# Altium schematic symbol library NEW-MODUL.SchLib: 247 symbols (part 2 of 2)
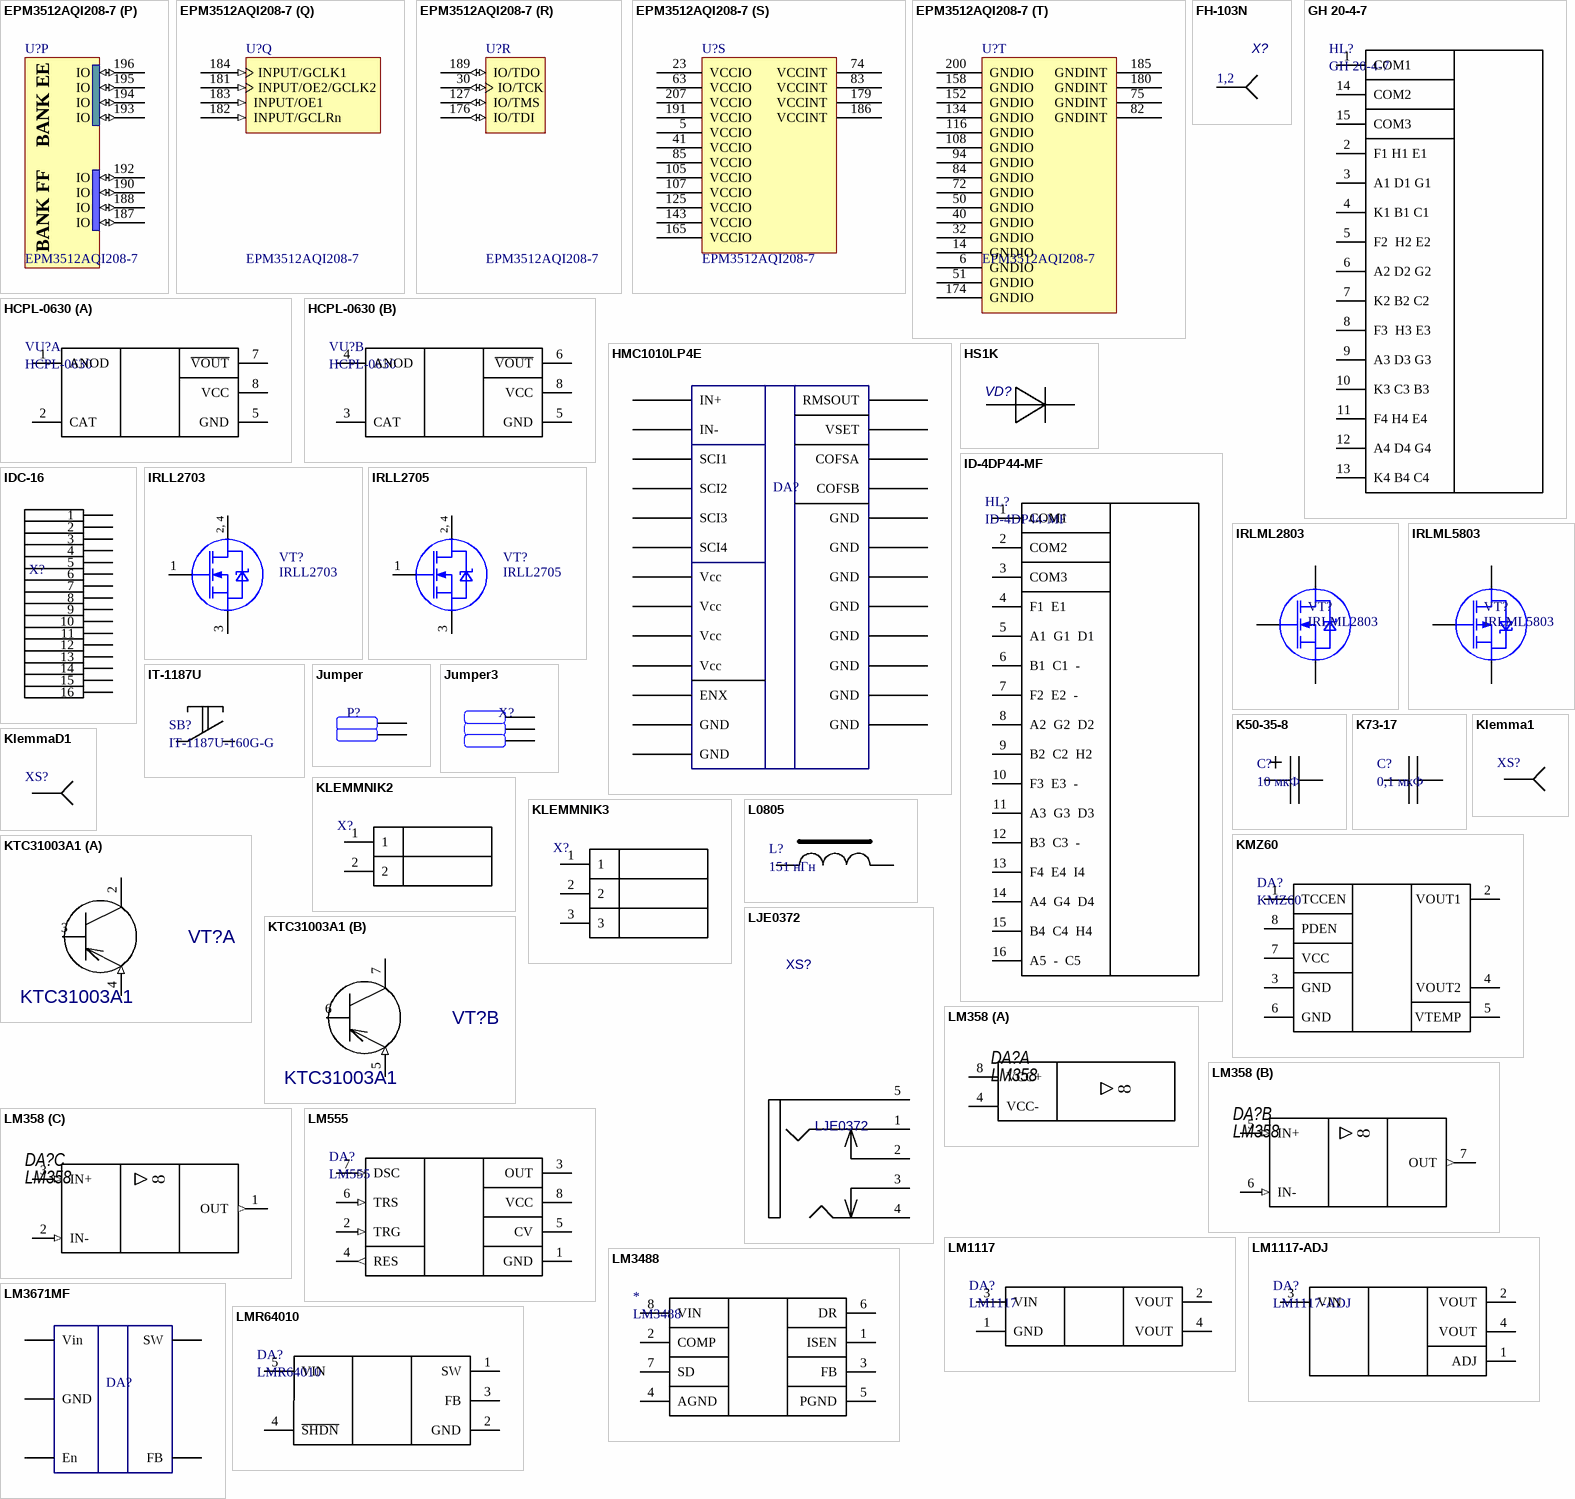
[diagram p15: symbols EPM3512AQI208-7 to LMR64010]

## EPM3512AQI208-7
designator U?
MAX 3512A 3.3V CPLD, 172 IOs, 208-Pin PQFP, Industrial Temperature, Speed Grade 7; Published: 17-Sep-2003; LatestRevisionDate: 13-Apr-2006; LatestRevisionNote: IPC-7351 Footprint Added.; DatasheetVersion: ver3.5, Jun-2006; PackageVersion: ver14.3, Jul-2006; PackageReference: PQFP208; Publisher: Altium Limited; PackageDescription: 208-Pin Plastic Quad Flat Pack (PQFP208); Code_JEDEC: MS-029-FA-1; ComponentLink1Description: Manufacturer Link; ComponentLink1URL: http://www.altera.com/products/devices/max3k/m3k-index.html; ComponentLink2Description: Datasheet; ComponentLink2URL: http://www.altera.com/literature/ds/m3000a.pdf; ComponentLink3Description: Packaging Specification; ComponentLink3URL: http://www.altera.com/literature/ds/dspkg.pdf
footprint PQFP208_N (Shrink QFP, 208-Leads, Body 28x28mm, Pitch 0.5mm, IPC Medium Density)
footprint PQFP208_L (Shrink QFP, 208-Leads, Body 28x28mm, Pitch 0.5mm, IPC High Density)
footprint PQFP208_M (Shrink QFP, 208-Leads, Body 28x28mm, Pitch 0.5mm, IPC Low Density)
3D model EPM3512A-PQFP208 (208-Pin Plastic Quad Flat Pack (PQFP208))
signal-integrity model max3ka (MAX 3000A)
part A pins: 169 IO (io), 170 IO (io), 171 IO (io), 172 IO (io), 173 IO (io), 175 IO (io), 177 IO (io), 178 IO (io)
part B pins: 159 IO (io), 160 IO (io), 161 IO (io), 162 IO (io), 163 IO (io), 164 IO (io), 166 IO (io), 167 IO (io), 168 IO (io)
part C pins: 147 IO (io), 148 IO (io), 149 IO (io), 150 IO (io), 151 IO (io), 153 IO (io), 154 IO (io), 155 IO (io), 156 IO (io), 157 IO (io)
part D pins: 135 IO (io), 136 IO (io), 137 IO (io), 138 IO (io), 139 IO (io), 140 IO (io), 141 IO (io), 142 IO (io), 144 IO (io), 145 IO (io), 146 IO (io)
part E pins: 122 IO (io), 123 IO (io), 124 IO (io), 126 IO (io), 128 IO (io), 129 IO (io), 130 IO (io), 131 IO (io), 132 IO (io), 133 IO (io)
part F pins: 109 IO (io), 110 IO (io), 111 IO (io), 112 IO (io), 113 IO (io), 114 IO (io), 115 IO (io), 117 IO (io), 118 IO (io), 119 IO (io), 120 IO (io), 121 IO (io)
part G pins: 95 IO (io), 96 IO (io), 97 IO (io), 98 IO (io), 99 IO (io), 100 IO (io), 101 IO (io), 102 IO (io), 103 IO (io), 104 IO (io), 106 IO (io)
part H pins: 79 IO (io), 80 IO (io), 81 IO (io), 86 IO (io), 87 IO (io), 88 IO (io), 89 IO (io), 90 IO (io), 91 IO (io), 92 IO (io), 93 IO (io)
part I pins: 64 IO (io), 65 IO (io), 66 IO (io), 67 IO (io), 68 IO (io), 69 IO (io), 70 IO (io), 71 IO (io), 73 IO (io), 76 IO (io), 77 IO (io), 78 IO (io)
part J pins: 49 IO (io), 52 IO (io), 53 IO (io), 54 IO (io), 55 IO (io), 56 IO (io), 57 IO (io), 58 IO (io), 59 IO (io), 60 IO (io), 61 IO (io), 62 IO (io)
part K pins: 36 IO (io), 37 IO (io), 38 IO (io), 39 IO (io), 42 IO (io), 43 IO (io), 44 IO (io), 45 IO (io), 46 IO (io), 47 IO (io), 48 IO (io)
part L pins: 24 IO (io), 25 IO (io), 26 IO (io), 27 IO (io), 28 IO (io), 29 IO (io), 31 IO (io), 33 IO (io), 34 IO (io), 35 IO (io)
part M pins: 11 IO (io), 12 IO (io), 13 IO (io), 15 IO (io), 16 IO (io), 17 IO (io), 18 IO (io), 19 IO (io), 20 IO (io), 21 IO (io), 22 IO (io)
part N pins: 1 IO (io), 2 IO (io), 3 IO (io), 4 IO (io), 7 IO (io), 8 IO (io), 9 IO (io), 10 IO (io), 208 IO (io)
part O pins: 197 IO (io), 198 IO (io), 199 IO (io), 201 IO (io), 202 IO (io), 203 IO (io), 204 IO (io), 205 IO (io), 206 IO (io)
part P pins: 187 IO (io), 188 IO (io), 190 IO (io), 192 IO (io), 193 IO (io), 194 IO (io), 195 IO (io), 196 IO (io)
part Q pins: 181 INPUT/OE2/GCLK2 (in), 182 INPUT/GCLRn (in), 183 INPUT/OE1 (in), 184 INPUT/GCLK1 (in)
part R pins: 30 IO/TCK (io), 127 IO/TMS (io), 176 IO/TDI (io), 189 IO/TDO (io)
part S pins: 5 VCCIO (power), 23 VCCIO (power), 41 VCCIO (power), 63 VCCIO (power), 74 VCCINT (power), 83 VCCINT (power), 85 VCCIO (power), 105 VCCIO (power), 107 VCCIO (power), 125 VCCIO (power), 143 VCCIO (power), 165 VCCIO (power), 179 VCCINT (power), 186 VCCINT (power), 191 VCCIO (power), 207 VCCIO (power)
part T pins: 6 GNDIO (power), 14 GNDIO (power), 32 GNDIO (power), 40 GNDIO (power), 50 GNDIO (power), 51 GNDIO (power), 72 GNDIO (power), 75 GNDINT (power), 82 GNDINT (power), 84 GNDIO (power), 94 GNDIO (power), 108 GNDIO (power), 116 GNDIO (power), 134 GNDIO (power), 152 GNDIO (power), 158 GNDIO (power), 174 GNDIO (power), 180 GNDINT (power), 185 GNDINT (power), 200 GNDIO (power)
part A text: BANK A; BANK B
part B text: BANK C; BANK D
part C text: BANK E; BANK F
part D text: BANK G; BANK H
part E text: BANK I; BANK J
part F text: BANK K; BANK L
part G text: BANK M; BANK N
part H text: BANK O; BANK P
part I text: BANK Q; BANK R
part J text: BANK S; BANK T
part K text: BANK U; BANK V
part L text: BANK W; BANK X
part M text: BANK Y; BANK Z
part N text: BANK AA; BANK BB
part O text: BANK CC; BANK DD
part P text: BANK EE; BANK FF

## FH-103N
designator X?  (value not drawn)
Value: *
footprint FH-103N
pins: 1, 2
text: 1,2

## GH 20-4-7
designator HL?
footprint GH 20-4-7
pins: 1 COM1, 2 F1 H1 E1, 3 A1 D1 G1 , 4 K1 B1 C1  , 5 F2  H2 E2, 6 A2 D2 G2  , 7 K2 B2 C2  , 8 F3  H3 E3, 9 A3 D3 G3, 10 K3 C3 B3 , 11 F4 H4 E4, 12 A4 D4 G4 , 13 K4 B4 C4, 14 COM2, 15 COM3

## HCPL-0630
designator VU?
footprint SO8-HCPL (SOIC, 8-Leads, Body 4.9x3.9mm, Pitch 1.27mm, IPC Low Density)
part A pins: 1 ANOD, 2 CAT, 5 GND, 7 ~{VOUT}, 8 VCC
part B pins: 3 CAT, 4 ANOD, 5 GND, 6 ~{VOUT}, 8 VCC

## HMC1010LP4E
designator DA?  (value not drawn)
footprint HMC1010LP4E - duplicate
pins: 1 Vcc, 2 GND, 3 IN+, 4 IN-, 5 GND, 6 GND, 7 ENX, 8 GND, 9 COFSA, 10 COFSB, 11 GND, 12 GND, 13 GND, 14 VSET, 15 RMSOUT, 16 Vcc, 17 SCI1, 18 SCI2, 19 SCI3, 20 SCI4, 21 Vcc, 22 GND, 23 Vcc, 24 GND, 25 GND

## HS1K
designator VD?  (value not drawn)
Silicon Switching Diode Array for High-Speed Switching; Published: 21-Mar-2003; DatasheetDocument: Oct-1999; PackageDocument: Sep-2001; PackageReference: SOT-23; Publisher: Altium Limited; ComponentLink1Description: Manufacturer Link; ComponentLink1URL: http://www.infineon.com/; ComponentLink2Description: Datasheet; ComponentLink2URL: http://www.infineon.com/upload/Document/cmc_upload/documents/080/631/bav99series_1.pdf
footprint SMA
pins: 1 A, 2 C

## ID-4DP44-MF
designator HL?
footprint ID-4DP44-MF
pins: 1 COM1, 2 COM2, 3 COM3, 4 F1  E1, 5 A1  G1  D1, 6 B1  C1  -, 7 F2  E2  -, 8 A2  G2  D2, 9 B2  C2  H2, 10 F3  E3  -, 11 A3  G3  D3, 12 B3  C3  -, 13 F4  E4  I4, 14 A4  G4  D4, 15 B4  C4  H4, 16 A5  -  C5

## IDC-16
designator X?, comment IDC16  (value not drawn)
footprint IDC16
pins: 1, 2, 3, 4, 5, 6, 7, 8, 9, 10, 11, 12, 13, 14, 15, 16

## IRLL2703
designator VT?
HEXFET Power MOSFET; Note: Pin 2 is electrically connected to pin 4.; Published: 8-Jun-2000; LatestRevisionDate: 20-Nov-2009; LatestRevisionNote: IPC-7351 Footprint Added.; DatasheetVersion: Jan-1999; PackageReference: SOT-223; Publisher: Altium Limited; PackageDescription: 4-Pin SOT-223 Package 2.3 mm Pitch, 7 mm Lead Span; Code_JEDEC: TO-261-AA; Code_IPC: SOT223-4; ComponentLink1Description: Manufacturer Link; ComponentLink1URL: http://www.irf.com/; ComponentLink2Description: Datasheet; ComponentLink2URL: http://www.irf.com/product-info/datasheets/data/irll2703.pdf
footprint SOT223 (SOT-223/SC-73; 4 Leads; Body 6.7 x 7.3 mm, inc. leads (LxW max))
pins: 1 G, 2 D, 3 S, 4 D
text: 2, 4

## IRLL2705
designator VT?
HEXFET Power MOSFET; Note: Pin 2 is electrically connected to pin 4.; Published: 8-Jun-2000; LatestRevisionDate: 20-Nov-2009; LatestRevisionNote: IPC-7351 Footprint Added.; DatasheetVersion: Jan-1999; PackageReference: SOT-223; Publisher: Altium Limited; PackageDescription: 4-Pin SOT-223 Package 2.3 mm Pitch, 7 mm Lead Span; Code_JEDEC: TO-261-AA; Code_IPC: SOT223-4; ComponentLink1Description: Manufacturer Link; ComponentLink1URL: http://www.irf.com/; ComponentLink2Description: Datasheet; ComponentLink2URL: http://www.irf.com/product-info/datasheets/data/irll2705.pdf
footprint SOT223 (SOT-223/SC-73; 4 Leads; Body 6.7 x 7.3 mm, inc. leads (LxW max))
pins: 1 G, 2 D, 3 S, 4 D
text: 2, 4

## IRLML2803
designator VT?
HEXFET Power MOSFET
footprint SOT23-3L (SOT23, 3-Leads, Body 2.9x1.3mm, Pitch 0.95mm, Lead Span 2.5mm, IPC High Density)
pins: 1 G, 2 S, 3 D

## IRLML5803
designator VT?
HEXFET Power MOSFET
footprint SOT23-3L (SOT23, 3-Leads, Body 2.9x1.3mm, Pitch 0.95mm, Lead Span 2.5mm, IPC High Density)
pins: 1 G, 2 S, 3 D

## IT-1187U
designator SB?, comment IT-1187U-160G-G
footprint IT-1187 (SOIC, 4-Leads, Body 5,20x5,20mm, Pitch 1,27mm, IPC Medium Density)
pins: 1, 2, 3, 4

## Jumper
designator P?, comment jmp  (value not drawn)
footprint Jump
pins: 1 N2, 2 N1

## Jumper3
designator X?, comment pls  (value not drawn)
footprint JUMP3
pins: 1 N1, 2 N2, 3 N3

## K50-35-8
designator C?, comment 10 мкФ
конденсатор; Value: 10 мкФ
footprint K50-35-8
pins: 1, 2

## K73-17
designator C?, comment 0,1 мкФ
планарный конденсатор; Value: 0,1 мкФ
footprint K73-17
pins: 1, 2

## Klemma1
designator XS?  (value not drawn)
PLS-1
footprint KlemmaD1
pins: 1

## KlemmaD1
designator XS?  (value not drawn)
footprint KlemmaD1
pins: 1

## KLEMMNIK2
designator X?  (value not drawn)
footprint KLEMNIK2
pins: 1, 2

## KLEMMNIK3
designator X?  (value not drawn)
footprint KLEMNIK3 -SMD
pins: 1, 2, 3

## KMZ60
designator DA?
footprint SOIC127P600-8BM (SOIC, 8-Leads, Body 4.9x3.9mm, Pitch 1.27mm, IPC Low Density)
pins: 1 TCCEN, 2 VOUT1, 3 GND, 4 VOUT2, 5 VTEMP, 6 GND, 7 VCC, 8 PDEN

## KTC31003A1
designator VT?
footprint N-8_A (DIP; 8 Leads; Row Spacing 7.62 mm; Pitch 2.54 mm)
part A pins: 2 COLLEC (oe), 3 BASE (oc), 4 EMIT (in)
part B pins: 5 EMIT (in), 6 BASE (oc), 7 COLLEC (oe)

## L0805
designator L?, comment 151 нГн
Value: 151 нГн
footprint INDC2012L (Chip Inductor, Body 2.0x1.2mm, IPC High Density)
pins: 1, 2

## LJE0372
designator XS?
Value: *
footprint JACK-MONO
pins: 1 R, 2 RS, 3 TS, 4 T, 5 S

## LM358
designator DA?
OP AMP
footprint SOIC127P600X175-8N
part A pins: 4 VCC- (power), 8 VCC+ (power)
part B pins: 5 IN+ (in), 6 IN- (in), 7 OUT (out)
part C pins: 1 OUT (out), 2 IN- (in), 3 IN+ (in)

## LM555
designator DA?
TIMER
footprint SOIC127P600-8BM (SOIC, 8-Leads, Body 4.9x3.9mm, Pitch 1.27mm, IPC Low Density)
pins: 1 GND, 2 TRG (in), 3 OUT, 4 RES (out), 5 CV (power), 6 TRS (in), 7 DSC (in), 8 VCC

## LM1117
designator DA?
footprint SOT223 (SOT-223/SC-73; 4 Leads; Body 6.7 x 7.3 mm, inc. leads (LxW max))
pins: 1 GND, 2 VOUT, 3 VIN, 4 VOUT

## LM1117-ADJ
designator DA?
footprint SOT223 (SOT-223/SC-73; 4 Leads; Body 6.7 x 7.3 mm, inc. leads (LxW max))
pins: 1 ADJ, 2 VOUT, 3 VIN, 4 VOUT

## LM3488
designator *
footprint UMAX8 (Shrink Small Outline; 8 Leads; Body Width 3 mm; Pitch 0.65 mm)
pins: 1 ISEN, 2 COMP, 3 FB, 4 AGND (power), 5 PGND (power), 6 DR, 7 SD, 8 VIN (power)

## LM3671MF
designator DA?  (value not drawn)
footprint SOT23-5AM (SOT23, 5-Leads, Body 2.9x1.7mm, Pitch 0.95mm, Lead Span 2.8mm, IPC Low Density)
pins: 1 Vin, 2 GND, 3 En, 4 FB, 5 SW

## LMR64010
designator DA?
footprint SOT23-5AM (SOT23, 5-Leads, Body 2.9x1.7mm, Pitch 0.95mm, Lead Span 2.8mm, IPC Low Density)
pins: 1 SW, 2 GND (power), 3 FB, 4 ~{SHDN}, 5 VIN (power)

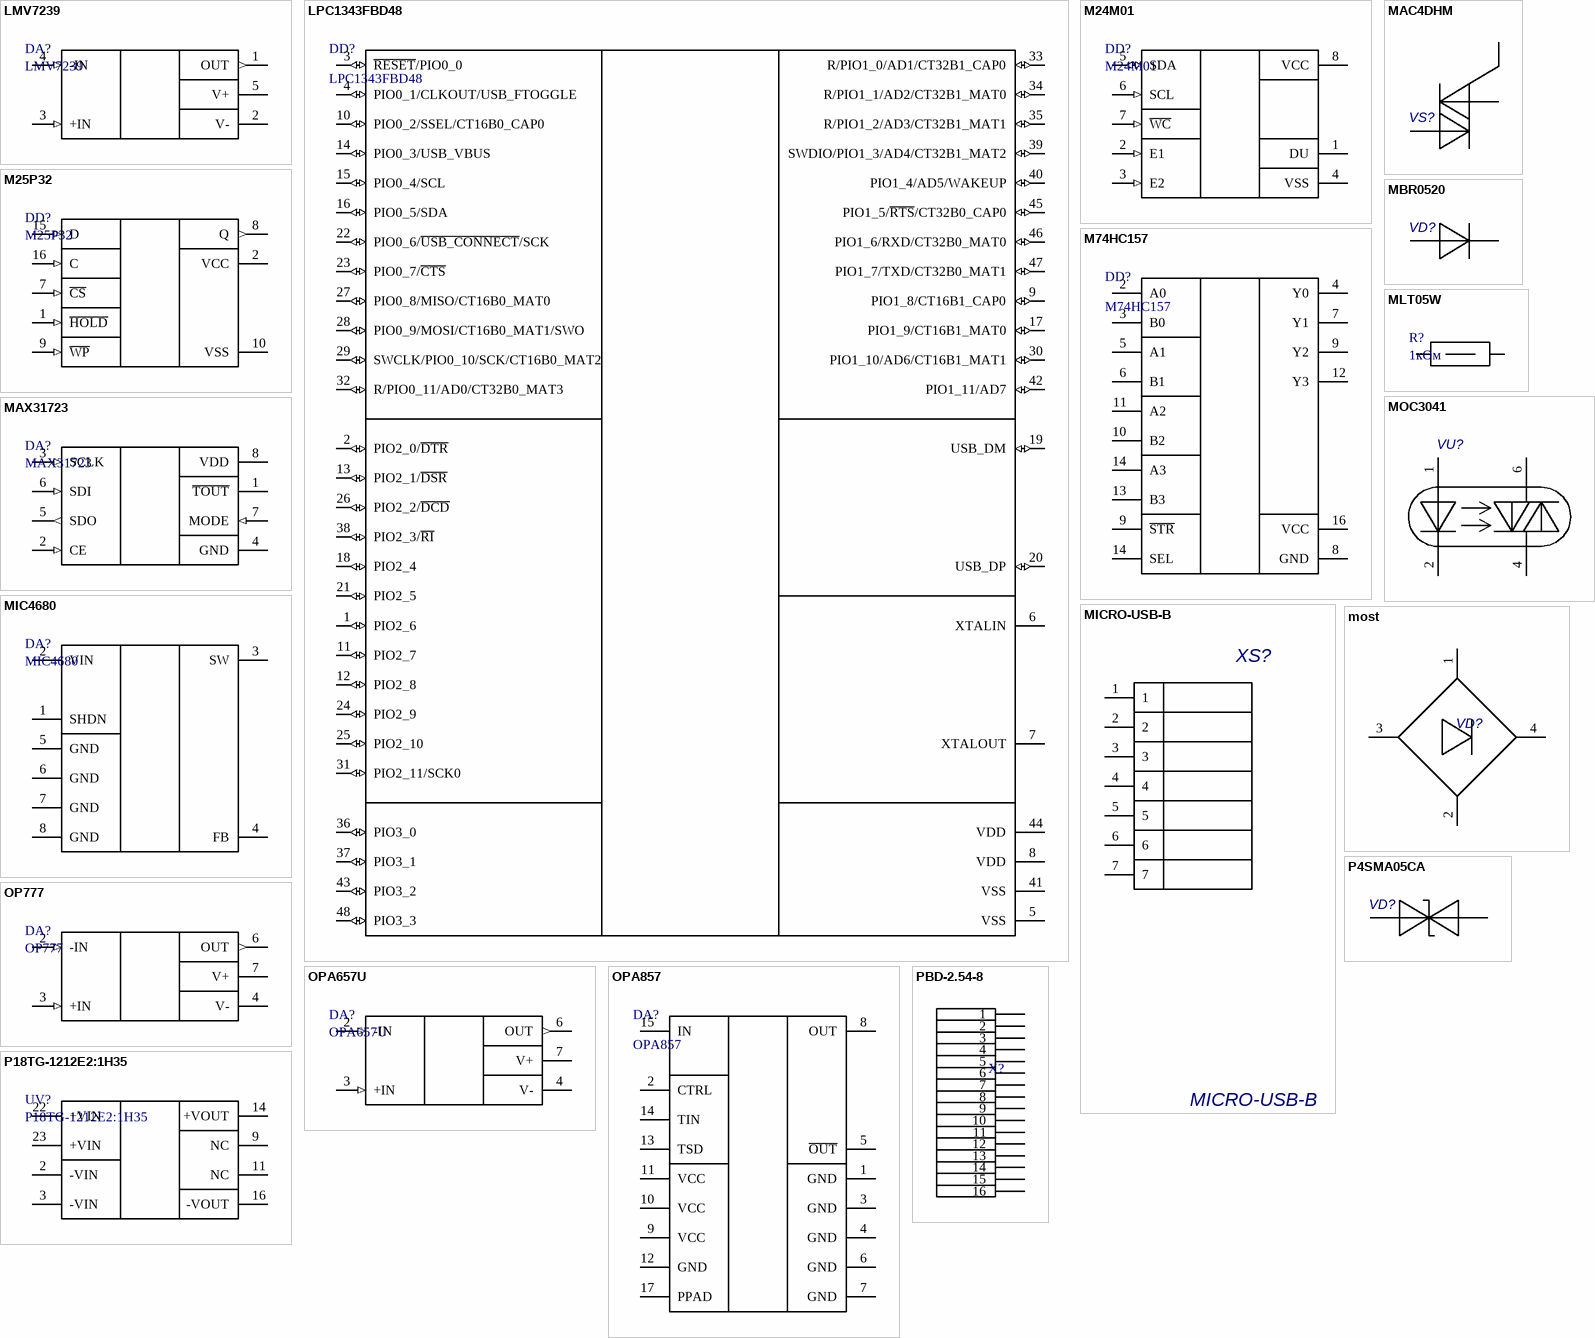
[diagram p12: symbols LMV7239 to PBD-2.54-8]

## LMV7239
designator DA?
Comparator with Open-Drain/Push-Pull Output
footprint SOT23-5AM (SOT23, 5-Leads, Body 2.9x1.7mm, Pitch 0.95mm, Lead Span 2.8mm, IPC Low Density)
pins: 1 OUT (out), 2 V- (power), 3 +IN (in), 4 -IN (in), 5 V+ (power)

## LPC1343FBD48
designator DD?
Cortex-M3, 32-Bit ARM MCU, 32 kB flash, 8 kB SRAM, 72 MHz USB device, 48-Pin LQFP; fmax: 72 MHz; SRAM: 8 kB; Flash: 32 kB; GPIOs: 40; USB: 1; PLL: Y; ADC channels: 8; Timers: 4; VDD (min): 2 V; VDD (typ): 3.3 V; VDD (max): 3.6 V; Code_IEC: 136E05; DatasheetVersion: Rev. 4, Jun-2011; PackageVersion: 37677; PackageReference: SOT313-2; PackageDescription: LQFP48: Plastic Low Profile Quad Flat Package; 48 Leads; Body 7 x 7 x 1.4 mm; UART: 1; I2C: 1; SPI: 1; SSP: 1; Code_JEDEC: MS-026; PartNumber: LPC1343FBD48; ComponentLink1Description: Manufacturer URL; ComponentLink1URL: http://www.nxp.com/; ComponentLink2Description: Datasheet; ComponentLink2URL: http://www.nxp.com/documents/data_sheet/LPC1311_13_42_43.pdf
footprint SOT313-2_V (Thin QFP, 48-Leads, Body 7x7mm, Pitch 0.5mm, NXP Recommended)
pins: 1 PIO2_6 (io), 2 PIO2_0/~{DTR} (io), 3 ~{RESET}/PIO0_0 (io), 4 PIO0_1/CLKOUT/USB_FTOGGLE (io), 5 VSS (power), 6 XTALIN, 7 XTALOUT, 8 VDD (power), 9 PIO1_8/CT16B1_CAP0 (io), 10 PIO0_2/SSEL/CT16B0_CAP0 (io), 11 PIO2_7 (io), 12 PIO2_8 (io), 13 PIO2_1/~{DSR} (io), 14 PIO0_3/USB_VBUS (io), 15 PIO0_4/SCL (io), 16 PIO0_5/SDA (io), 17 PIO1_9/CT16B1_MAT0 (io), 18 PIO2_4 (io), 19 USB_DM (io), 20 USB_DP (io), 21 PIO2_5 (io), 22 PIO0_6/~{USB_CONNECT}/SCK (io), 23 PIO0_7/~{CTS} (io), 24 PIO2_9 (io), 25 PIO2_10 (io), 26 PIO2_2/~{DCD} (io), 27 PIO0_8/MISO/CT16B0_MAT0 (io), 28 PIO0_9/MOSI/CT16B0_MAT1/SWO (io), 29 SWCLK/PIO0_10/SCK/CT16B0_MAT2 (io), 30 PIO1_10/AD6/CT16B1_MAT1 (io), 31 PIO2_11/SCK0 (io), 32 R/PIO0_11/AD0/CT32B0_MAT3 (io), 33 R/PIO1_0/AD1/CT32B1_CAP0 (io), 34 R/PIO1_1/AD2/CT32B1_MAT0 (io), 35 R/PIO1_2/AD3/CT32B1_MAT1 (io), 36 PIO3_0 (io), 37 PIO3_1 (io), 38 PIO2_3/~{RI} (io), 39 SWDIO/PIO1_3/AD4/CT32B1_MAT2 (io), 40 PIO1_4/AD5/WAKEUP (io), 41 VSS (power), 42 PIO1_11/AD7 (io), 43 PIO3_2 (io), 44 VDD (power), 45 PIO1_5/~{RTS}/CT32B0_CAP0 (io), 46 PIO1_6/RXD/CT32B0_MAT0 (io), 47 PIO1_7/TXD/CT32B0_MAT1 (io), 48 PIO3_3 (io)

## M24M01
designator DD?
footprint SOIC127P600-8BM (SOIC, 8-Leads, Body 4.9x3.9mm, Pitch 1.27mm, IPC Low Density)
pins: 1 DU, 2 E1 (in), 3 E2 (in), 4 VSS (power), 5 SDA (io), 6 SCL (in), 7 ~{WC} (in), 8 VCC (power)

## M25P32
designator DD?
footprint DW016_N (16-Pin Plastic Small Outline Integrated Circuit 1.27 mm Pitch, IPC Medium Density)
pins: 1 ~{HOLD} (in), 2 VCC (power), 7 ~{CS} (in), 8 Q (out), 9 ~{WP} (in), 10 VSS, 15 D (in), 16 C (in)

## M74HC157
designator DD?
footprint R-16A_M (16-Pin Small Outline Integrated Circuit 1.27 mm Pitch, IPC Low Density)
pins: 2 A0, 3 B0, 4 Y0, 5 A1, 6 B1, 7 Y1, 8 GND, 9 ~{STR}, 9 Y2, 10 B2, 11 A2, 12 Y3, 13 B3, 14 SEL, 14 A3, 16 VCC

## MAC4DHM
designator VS?  (value not drawn)
Sensitive Gate Triacs  Silicon Bidirectional Thyristors; Published: 21-Mar-2003; DatasheetDocument: Oct-1999; PackageDocument: Sep-2001; PackageReference: SOT-23; Publisher: Altium Limited; ComponentLink1Description: Manufacturer Link; ComponentLink1URL: http://www.infineon.com/; ComponentLink2Description: Datasheet; ComponentLink2URL: http://www.infineon.com/upload/Document/cmc_upload/documents/080/631/bav99series_1.pdf
footprint ONSC-DPAK-3-369AA-01_V (DPAK, 3-Leads, Body 6.54x6.095mm, Pitch 2.29mm)
pins: 1 MT1, 3 GATE, 4 MT2

## MAX31723
designator DA?
footprint UMAX8 (Shrink Small Outline; 8 Leads; Body Width 3 mm; Pitch 0.65 mm)
pins: 1 ~{TOUT} (oc), 2 CE (in), 3 SCLK (in), 4 GND (power), 5 SDO (out), 6 SDI (in), 7 MODE (in), 8 VDD (power)

## MBR0520
designator VD?  (value not drawn)
Silicon Switching Diode Array for High-Speed Switching; Published: 21-Mar-2003; DatasheetDocument: Oct-1999; PackageDocument: Sep-2001; PackageReference: SOT-23; Publisher: Altium Limited; ComponentLink1Description: Manufacturer Link; ComponentLink1URL: http://www.infineon.com/; ComponentLink2Description: Datasheet; ComponentLink2URL: http://www.infineon.com/upload/Document/cmc_upload/documents/080/631/bav99series_1.pdf
footprint sod123
pins: 1 A, 2 C

## MIC4680
designator DA?
footprint SOIC127P600-8BM (SOIC, 8-Leads, Body 4.9x3.9mm, Pitch 1.27mm, IPC Low Density)
pins: 1 SHDN, 2 VIN, 3 SW, 4 FB, 5 GND, 6 GND, 7 GND, 8 GND

## MICRO-USB-B
designator XS?
Value: *
footprint MICRO-USB-B
pins: 1, 2, 3, 4, 5, 6, 7, 8 hidden, 9 hidden, 10 hidden, 11 hidden

## MLT05W
designator R?, comment 1кОм
резистор 0,5W; Value: 1кОм
footprint MLT05WT
pins: 1, 2

## MOC3041
designator VU?  (value not drawn)
Published: 21-Mar-2003; DatasheetDocument: Oct-1999; PackageDocument: Sep-2001; PackageReference: SOT-23; Publisher: Altium Limited; ComponentLink1Description: Manufacturer Link; ComponentLink1URL: http://www.infineon.com/; ComponentLink2Description: Datasheet; ComponentLink2URL: http://www.infineon.com/upload/Document/cmc_upload/documents/080/631/bav99series_1.pdf
footprint DIP6-320
pins: 1, 2, 4, 6

## most
designator VD?  (value not drawn)
Silicon Switching Diode Array for High-Speed Switching; Published: 21-Mar-2003; DatasheetDocument: Oct-1999; PackageDocument: Sep-2001; PackageReference: SOT-23; Publisher: Altium Limited; ComponentLink1Description: Manufacturer Link; ComponentLink1URL: http://www.infineon.com/; ComponentLink2Description: Datasheet; ComponentLink2URL: http://www.infineon.com/upload/Document/cmc_upload/documents/080/631/bav99series_1.pdf
pins: 1, 2, 3, 4

## OP777
designator DA?
Precision Micropower  Single-Supply Operational Amplifiers
footprint SOIC127P600-8BM (SOIC, 8-Leads, Body 4.9x3.9mm, Pitch 1.27mm, IPC Low Density)
pins: 2 -IN (in), 3 +IN (in), 4 V- (power), 6 OUT (out), 7 V+ (power)

## OPA657U
designator DA?
FET OP
footprint SOIC127P600-8BM (SOIC, 8-Leads, Body 4.9x3.9mm, Pitch 1.27mm, IPC Low Density)
pins: 2 -IN (in), 3 +IN (in), 4 V- (power), 6 OUT (out), 7 V+ (power)

## OPA857
designator DA?
footprint PV-QFN16 (QFN, 16-Leads, Body 3x3mm, Pitch 0.5mm, Thermal Pad 1.75x1.75mm, IPC Low Density)
pins: 1 GND, 2 CTRL, 3 GND, 4 GND, 5 ~{OUT}, 6 GND, 7 GND, 8 OUT, 9 VCC, 10 VCC, 11 VCC, 12 GND, 13 TSD, 14 TIN, 15 IN, 17 PPAD

## P4SMA05CA
designator VD?  (value not drawn)
Silicon Switching Diode Array for High-Speed Switching; Published: 21-Mar-2003; DatasheetDocument: Oct-1999; PackageDocument: Sep-2001; PackageReference: SOT-23; Publisher: Altium Limited; ComponentLink1Description: Manufacturer Link; ComponentLink1URL: http://www.infineon.com/; ComponentLink2Description: Datasheet; ComponentLink2URL: http://www.infineon.com/upload/Document/cmc_upload/documents/080/631/bav99series_1.pdf
footprint SMA
pins: 1 A, 2

## P18TG-1212E2:1H35
designator UV?
DC-DC 12V-12V 4WT
footprint P18TG-1212E2:1H35
pins: 2 -VIN (power), 3 -VIN (power), 9 NC, 11 NC, 14 +VOUT (power), 16 -VOUT, 22 +VIN (power), 23 +VIN

## PBD-2.54-8
designator X?, comment pbd  (value not drawn)
footprint PBD
pins: 1, 2, 3, 4, 5, 6, 7, 8, 9, 10, 11, 12, 13, 14, 15, 16

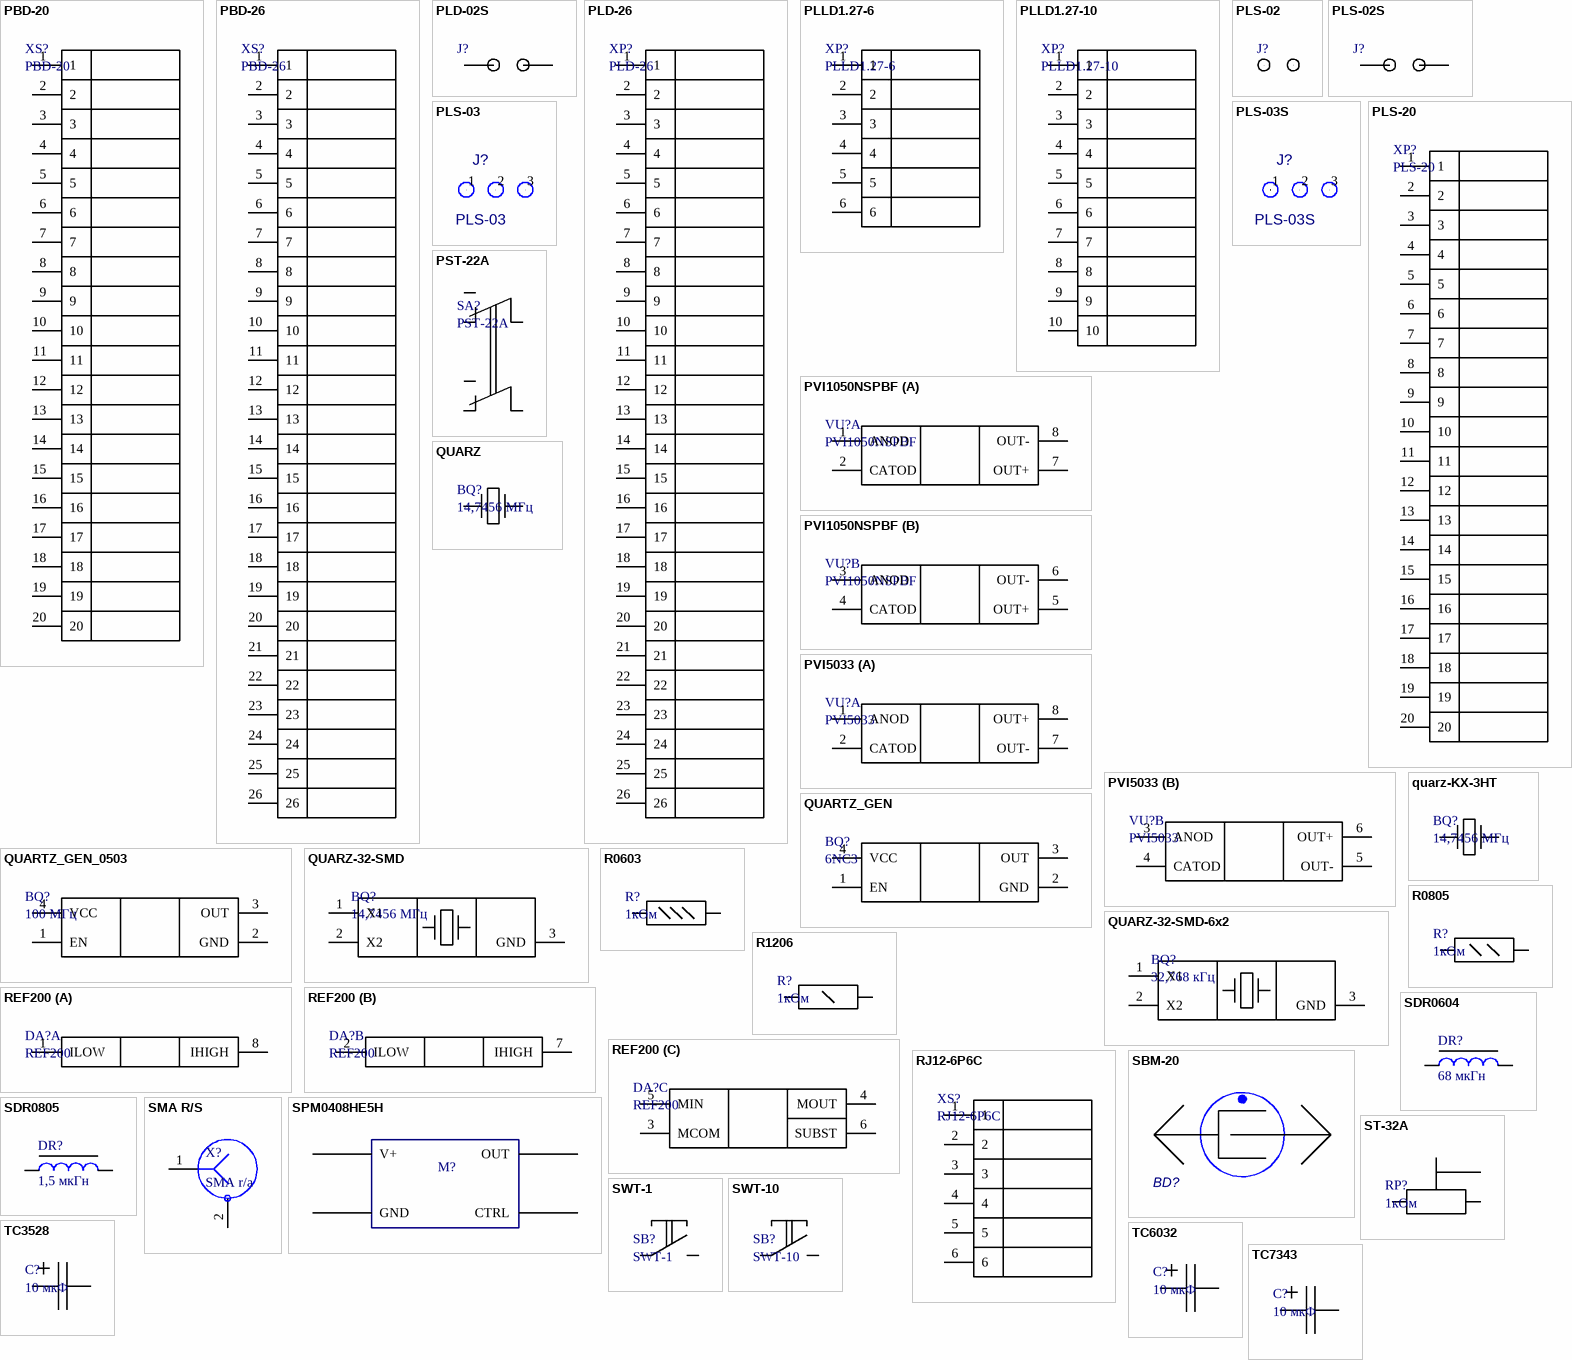
[diagram p13: symbols PBD-20 to TC7343]

## PBD-20
designator XS?
footprint PBD-20 (Connector; IDC, Low Profile Male Header, Thru-Hole; 10 Position; Vertical; Pitch 2.54 mm)
pins: 1, 2, 3, 4, 5, 6, 7, 8, 9, 10, 11, 12, 13, 14, 15, 16, 17, 18, 19, 20

## PBD-26
designator XS?
footprint PBD-26 (Connector; IDC, Low Profile Male Header, Thru-Hole; 10 Position; Vertical; Pitch 2.54 mm)
pins: 1, 2, 3, 4, 5, 6, 7, 8, 9, 10, 11, 12, 13, 14, 15, 16, 17, 18, 19, 20, 21, 22, 23, 24, 25, 26

## PLD-02S
designator J?  (value not drawn)
footprint PLD-02S
pins: 1, 2

## PLD-26
designator XP?
footprint PLD-26 (Connector; IDC, Low Profile Male Header, Thru-Hole; 26 Position; Vertical; Pitch 2.54 mm)
pins: 1, 2, 3, 4, 5, 6, 7, 8, 9, 10, 11, 12, 13, 14, 15, 16, 17, 18, 19, 20, 21, 22, 23, 24, 25, 26

## PLLD1.27-6
designator XP?
footprint PLLD1.27-6
pins: 1, 2, 3, 4, 5, 6

## PLLD1.27-10
designator XP?
footprint PLLD1.27-10
pins: 1, 2, 3, 4, 5, 6, 7, 8, 9, 10

## PLS-02
designator J?  (value not drawn)
footprint Jump2
pins: 1, 2

## PLS-02S
designator J?  (value not drawn)
footprint PLS-02S
pins: 1, 2

## PLS-03
designator J?
PLS-03S
footprint JUMP3
pins: 1, 2, 3

## PLS-03S
designator J?
PDIF_TY: 255; PDIF_I_PID: JUMP2; Value: *
footprint PLS-03S
pins: 1, 2, 3

## PLS-20
designator XP?
footprint PLS-20 (Connector; , Low Profile Male Header, Thru-Hole; 20 Position; Vertical; Pitch 2.54 mm)
pins: 1, 2, 3, 4, 5, 6, 7, 8, 9, 10, 11, 12, 13, 14, 15, 16, 17, 18, 19, 20

## PST-22A
designator SA?
footprint PST-22A
pins: 1 NC1, 2 COM1, 3 NO1, 4 NC2, 5 COM2, 6 NO2

## PVI1050NSPBF
designator VU?
Photovoltaic Isolator
footprint S-DIP-8 (DIP; 8 Trim Leads; Row Spacing 7.62 mm; Pitch 2.54 mm)
part A pins: 1 ANOD, 2 CATOD, 7 OUT+, 8 OUT-
part B pins: 3 ANOD, 4 CATOD, 5 OUT+, 6 OUT-

## PVI5033
designator VU?
OP
footprint S-DIP-8 (DIP; 8 Trim Leads; Row Spacing 7.62 mm; Pitch 2.54 mm)
part A pins: 1 ANOD, 2 CATOD, 7 OUT-, 8 OUT+
part B pins: 3 ANOD, 4 CATOD, 5 OUT-, 6 OUT+

## QUARTZ_GEN
designator BQ?, comment 6NC3
footprint 6NC3
pins: 1 EN, 2 GND, 3 OUT, 4 VCC

## QUARTZ_GEN_0503
designator BQ?, comment 100 МГц
Value: 100 МГц
footprint KXO-V99
pins: 1 EN, 2 GND, 3 OUT, 4 VCC

## QUARZ
designator BQ?, comment 14,7456 МГц
Value: 14,7456 МГц
footprint HC49S-SMD
pins: 1, 2

## QUARZ-32-SMD
designator BQ?, comment 14,7456 МГц
Value: 14,7456 МГц
footprint QURTZ-32-SMD
pins: 1 X1, 2 X2, 3 GND

## QUARZ-32-SMD-6x2
designator BQ?, comment 32,768 кГц
Value: 32,768 кГц
footprint QURTZ-32-SMD -6x2
pins: 1 X1, 2 X2, 3 GND

## quarz-KX-3HT
designator BQ?, comment 14,7456 МГц
Value: 14,7456 МГц
footprint quarz-KX-3HT
pins: 1, 2

## R0603
designator R?, comment 1кОм
планарный резистор; Value: 1кОм
footprint R0603
pins: 1, 2

## R0805
designator R?, comment 1кОм
планарный резистор; Value: 1кОм
footprint RESC2012N (Chip Resistor, Body 2.0x1.3mm, IPC Medium Density)
pins: 1, 2

## R1206
designator R?, comment 1кОм
планарный резистор; Value: 1кОм
footprint R1206
pins: 1, 2

## REF200
designator DA?
footprint SOIC127P600-8BM (SOIC, 8-Leads, Body 4.9x3.9mm, Pitch 1.27mm, IPC Low Density)
part A pins: 1 ILOW, 8 IHIGH
part B pins: 2 ILOW, 7 IHIGH
part C pins: 3 MCOM, 4 MOUT, 5 MIN, 6 SUBST

## RJ12-6P6C
designator XS?
555731-1
footprint JACK/SM1.27-2H6A (Connector; PCB Jack, SM; 1-Port, 6 Positions, 6 Loaded; Unshielded without Lightpipes; Right Angle)
pins: 1, 2, 3, 4, 5, 6

## SBM-20
designator BD?  (value not drawn)
Value: *
footprint SBM-20

## SDR0604
designator DR?, comment 68 мкГн
inductor; value: 68 мкГн
footprint SDR0604
pins: 1, 2

## SDR0805
designator DR?, comment 1,5 мкГн
inductor; value: 1,5 мкГн
footprint SDR0805
pins: 1, 2

## SMA R/S
designator X?, comment SMA r/a
footprint SMA - duplicate
pins: 1, 2

## SPM0408HE5H
designator M?  (value not drawn)
footprint SPM0408HE5H
pins: 1 OUT, 2 CTRL, 3 GND, 4 V+

## ST-32A
designator RP?, comment 1кОм
подстроечный резистор; Value: 1кОм
footprint ST-32A
pins: 1, 2, 3

## SWT-1
designator SB?
footprint SWT-1 (Switch, 2 Pin)
pins: 1, 2

## SWT-10
designator SB?
footprint SWT-10 (2-Leads, Body 6,0x3,5mm, IPC Medium Density)
pins: 1, 2

## TC3528
designator C?, comment 10 мкФ
конденсатор; Value: 10 мкФ
footprint CAPC3225M (Chip Capacitor, Body 3.2x2.5mm, IPC Low Density)
pins: 1, 2

## TC6032
designator C?, comment 10 мкФ
конденсатор; Value: 10 мкФ
footprint CAPC5734M (Chip Capacitor, Body 5.7x3.4mm, IPC Low Density)
pins: 1, 2

## TC7343
designator C?, comment 10 мкФ
конденсатор; Value: 10 мкФ
footprint CAPC7238M (Chip Capacitor, Body 7.2x3.8mm, IPC Low Density)
pins: 1, 2

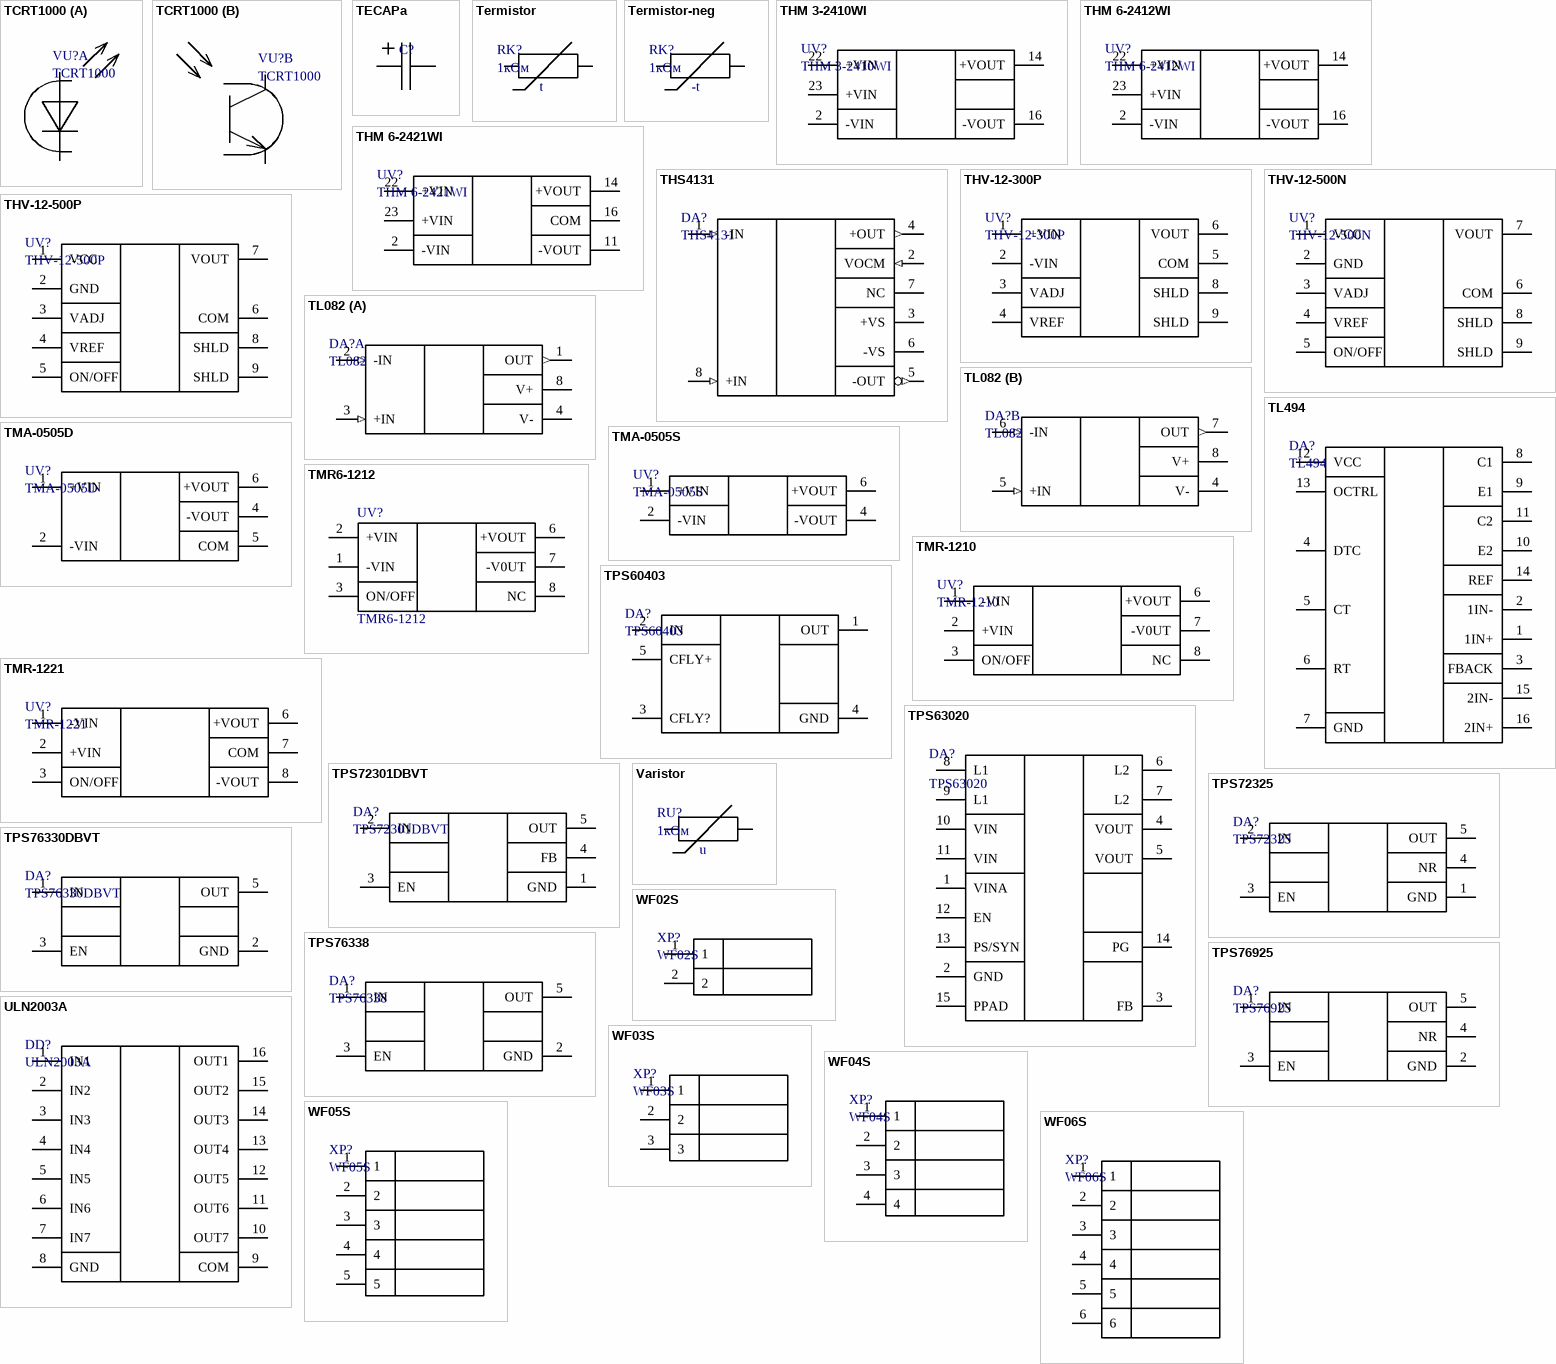
[diagram p14: symbols TCRT1000 to WF06S]

## TCRT1000
designator VU?
footprint TCRT1000
part A pins: 1 ANOD, 2 CATOD
part B pins: 3 EMITTER, 4 COLECTOR

## TECAPa
designator C?  (value not drawn)
footprint TECAPa
pins: 1, 2

## Termistor
designator RK?, comment 1кОм
планарный резистор; Value: 1кОм
footprint RESC2012N (Chip Resistor, Body 2.0x1.3mm, IPC Medium Density)
pins: 1, 2
text: t

## Termistor-neg
designator RK?, comment 1кОм
планарный резистор; Value: 1кОм
footprint RESC2012N (Chip Resistor, Body 2.0x1.3mm, IPC Medium Density)
pins: 1, 2
text: -t

## THM 3-2410WI
designator UV?
regulated 3 Watt DC/DC  converters in a DIP-24 plastic package
footprint THM 3-2410WI
pins: 2 -VIN (power), 14 +VOUT (power), 16 -VOUT, 22 +VIN (power), 23 +VIN

## THM 6-2412WI
designator UV?
regulated 6 Watt DC/DC  converters in a DIP-24 plastic package
footprint THM 6-2412WI
pins: 2 -VIN (power), 14 +VOUT (power), 16 -VOUT, 22 +VIN (power), 23 +VIN

## THM 6-2421WI
designator UV?
regulated 6 Watt DC/DC  converters in a DIP-24 plastic package
footprint THM 6-2421WI
pins: 2 -VIN (power), 11 -VOUT, 14 +VOUT (power), 16 COM, 22 +VIN (power), 23 +VIN

## THS4131
designator DA?
Differential ADC driver
footprint SOIC127P600-8BM (SOIC, 8-Leads, Body 4.9x3.9mm, Pitch 1.27mm, IPC Low Density)
pins: 1 -IN (in), 2 VOCM (in), 3 +VS (power), 4 +OUT (out), 5 -OUT (out), 6 -VS (power), 7 NC, 8 +IN (in)

## THV-12-300P
designator UV?
footprint THV-CASEA
pins: 1 +VIN, 2 -VIN, 3 VADJ, 4 VREF, 5 COM, 6 VOUT, 8 SHLD, 9 SHLD

## THV-12-500N
designator UV?
footprint THV-CASEB
pins: 1 VCC, 2 GND, 3 VADJ, 4 VREF, 5 ON/OFF, 6 COM, 7 VOUT, 8 SHLD, 9 SHLD

## THV-12-500P
designator UV?
footprint THV-CASEB
pins: 1 VCC, 2 GND, 3 VADJ, 4 VREF, 5 ON/OFF, 6 COM, 7 VOUT, 8 SHLD, 9 SHLD

## TL082
designator DA?
OP
footprint SOIC127P600-8BM (SOIC, 8-Leads, Body 4.9x3.9mm, Pitch 1.27mm, IPC Low Density)
part A pins: 1 OUT (out), 2 -IN (in), 3 +IN (in), 4 V- (power), 8 V+ (power)
part B pins: 4 V- (power), 5 +IN (in), 6 -IN (in), 7 OUT (out), 8 V+ (power)

## TL494
designator DA?
footprint R-16A_M (16-Pin Small Outline Integrated Circuit 1.27 mm Pitch, IPC Low Density)
pins: 1 1IN+, 2 1IN-, 3 FBACK, 4 DTC, 5 CT, 6 RT, 7 GND, 8 C1, 9 E1, 10 E2, 11 C2, 12 VCC, 13 OCTRL, 14 REF, 15 2IN-, 16 2IN+

## TMA-0505D
designator UV?
footprint TMA0505S
pins: 1 +VIN (power), 2 -VIN (power), 4 -VOUT (power), 5 COM, 6 +VOUT (power)

## TMA-0505S
designator UV?
footprint TMA0505S
pins: 1 +VIN (power), 2 -VIN (power), 4 -VOUT (power), 6 +VOUT (power)

## TMR6-1212
designator UV?
footprint SIP8
pins: 1 -VIN, 2 +VIN, 3 ON/OFF, 6 +VOUT, 7 -V0UT, 8 NC

## TMR-1210
designator UV?
footprint SIP8
pins: 1 -VIN, 2 +VIN, 3 ON/OFF, 6 +VOUT, 7 -V0UT, 8 NC

## TMR-1221
designator UV?
footprint SIP8
pins: 1 -VIN, 2 +VIN, 3 ON/OFF, 6 +VOUT, 7 COM, 8 -VOUT

## TPS60403
designator DA?
The TPS6040x is a family of devices that generate an unregulated negative output voltage from an input voltage  ranging from 1.6 V to 5.5 V.
footprint SOT23-5AM (SOT23, 5-Leads, Body 2.9x1.7mm, Pitch 0.95mm, Lead Span 2.8mm, IPC Low Density)
pins: 1 OUT, 2 IN, 3 CFLY?, 4 GND, 5 CFLY+

## TPS63020
designator DA?
HIGH EFFICIENCY SINGLE INDUCTOR BUCK-BOOST CONVERTER WITH 4-A SWITCHES
footprint VSON-14 (PQFN, 24-Leads, Body 5x4mm, Pitch 0.5mm, NSC Recommended)
pins: 1 VINA, 2 GND, 3 FB, 4 VOUT, 5 VOUT, 6 L2 , 7 L2 , 8 L1, 9 L1, 10 VIN , 11 VIN , 12 EN, 13 PS/SYN, 14 PG , 15 PPAD

## TPS72301DBVT
designator DA?
The TPS723xx family of low-dropout (LDO) negative  voltage regulators
footprint SOT23-5AM (SOT23, 5-Leads, Body 2.9x1.7mm, Pitch 0.95mm, Lead Span 2.8mm, IPC Low Density)
pins: 1 GND, 2 IN, 3 EN, 4 FB, 5 OUT

## TPS72325
designator DA?
The TPS723xx family of low-dropout (LDO) negative  voltage regulators
footprint SOT23-5AM (SOT23, 5-Leads, Body 2.9x1.7mm, Pitch 0.95mm, Lead Span 2.8mm, IPC Low Density)
pins: 1 GND, 2 IN, 3 EN, 4 NR, 5 OUT

## TPS76330DBVT
designator DA?
The TPS723xx family of low-dropout (LDO)  voltage regulators
footprint SOT23-5AM (SOT23, 5-Leads, Body 2.9x1.7mm, Pitch 0.95mm, Lead Span 2.8mm, IPC Low Density)
pins: 1 IN, 2 GND, 3 EN, 5 OUT

## TPS76338
designator DA?
The TPS723xx family of low-dropout (LDO) negative  voltage regulators
footprint SOT23-5AM (SOT23, 5-Leads, Body 2.9x1.7mm, Pitch 0.95mm, Lead Span 2.8mm, IPC Low Density)
pins: 1 IN, 2 GND, 3 EN, 5 OUT

## TPS76925
designator DA?
The TPS723xx family of low-dropout (LDO) negative  voltage regulators
footprint SOT23-5AM (SOT23, 5-Leads, Body 2.9x1.7mm, Pitch 0.95mm, Lead Span 2.8mm, IPC Low Density)
pins: 1 IN, 2 GND, 3 EN, 4 NR, 5 OUT

## ULN2003A
designator DD?
7-Channel Relay and Inductive Load Sink Driver
footprint R-16A_M (16-Pin Small Outline Integrated Circuit 1.27 mm Pitch, IPC Low Density)
pins: 1 IN1, 2 IN2, 3 IN3, 4 IN4, 5 IN5, 6 IN6, 7 IN7, 8 GND, 9 COM, 10 OUT7, 11 OUT6, 12 OUT5, 13 OUT4, 14 OUT3, 15 OUT2, 16 OUT1

## Varistor
designator RU?, comment 1кОм
планарный резистор; Value: 1кОм
footprint RESC2012N (Chip Resistor, Body 2.0x1.3mm, IPC Medium Density)
pins: 1, 2
text: u

## WF02S
designator XP?
footprint WF02S
pins: 1, 2

## WF03S
designator XP?
footprint WF03S
pins: 1, 2, 3

## WF04S
designator XP?
footprint WF04S
pins: 1, 2, 3, 4

## WF05S
designator XP?
footprint WF05S
pins: 1, 2, 3, 4, 5

## WF06S
designator XP?
footprint WF06S
pins: 1, 2, 3, 4, 5, 6